# Altium schematic symbol library 3PINHEADER.SchLib: 1 symbol
Pins are listed as number, name and electrical type; pins without a type are passive.

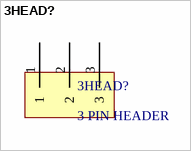
[diagram p0: symbol 3HEAD?]

## 3HEAD?
designator 3HEAD?, comment 3 PIN HEADER
footprint 3 PIN HEADER
pins: 1, 2, 3